# Altium footprint library PCB - CAPACITOR - ALUMINIUM - CAP ALSMD ELEC 13.5MM H16.5MM.pcblib: 1 footprints
Each footprint in its own frame and in the unit in brackets; x right, y up, seen from the top. Pads: shape width x height; smd on the part's side, far side on the other; paste and mask are expansions set on the pad; w line width, h text height; cw(c..) or ccw(c..) is an arc to the next point about the centre after c.
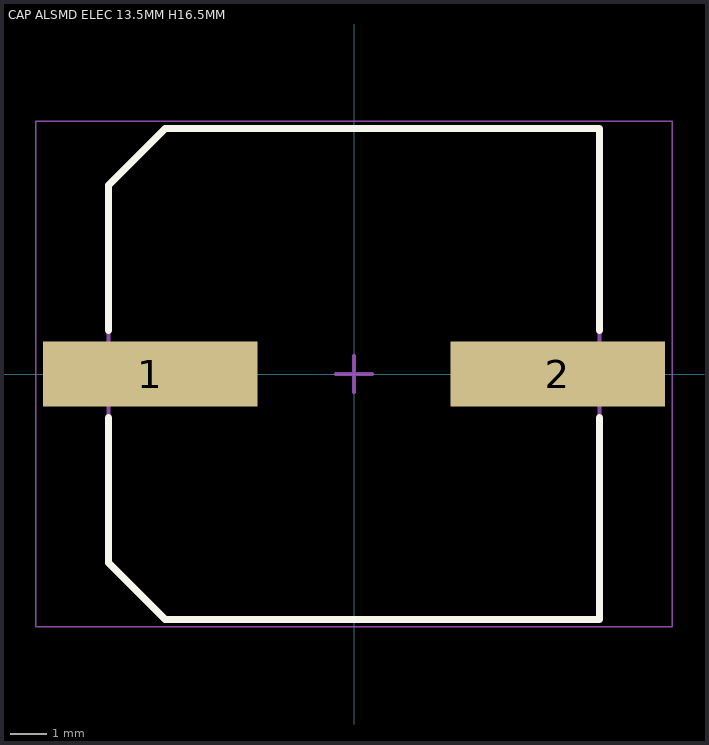
[diagram p0: the footprint, top view; thin cyan lines are the x and y axes]

## CAP ALSMD ELEC 13.5MM H16.5MM [mm] "Aluminum SMD Electrolytic Capacitor, 13.50mm Land Size, 12.50mm Diameter, 16.50mm Height, 13.80mm Maximum Leads Span"
height 0.9
pads (2):
  rect 5.9x1.8 smd: 1(-5.6,0) 2(5.6,0)
Top Overlay:
  lines w0.2: -6.75,-1.2 -6.75,-5.187 -5.187,-6.75 6.75,-6.75 6.75,-1.2 ; -6.75,1.2 -6.75,5.187 -5.187,6.75 6.75,6.75 6.75,1.2
Mechanical 13:
  lines w0.1: -6.75,-5.187 -6.75,5.187 -5.187,6.75 6.75,6.75 6.75,-6.75 -5.187,-6.75 -6.75,-5.187
Mechanical 15:
  lines w0.05: -8.75,-6.95 -8.75,6.95 8.75,6.95 8.75,-6.95 -8.75,-6.95
  lines w0.1: -0.5,0 0.5,0 ; 0,-0.5 0,0.5
3D body: height 16.5, standoff 0, extent -6.9,-6.75 6.9,6.75